# Altium schematic symbol library L7805CV.SchLib: 2 symbols
Pins are listed as number, name and electrical type; pins without a type are passive.

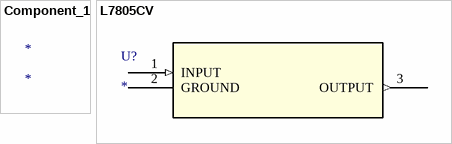
[diagram p0: symbols Component_1 to L7805CV]

## Component_1
designator *

## L7805CV
designator U?
No Description Available; Mfr_Name: STMicroelectronics; RefDes: RefDes; Type: Type
footprint TO-220_STM
pins: 1 INPUT (in), 2 GROUND (power), 3 OUTPUT (out)